# EAGLE library part MOTOR+ENC (library pololu)
#3081 + #1086 + LP micro motor
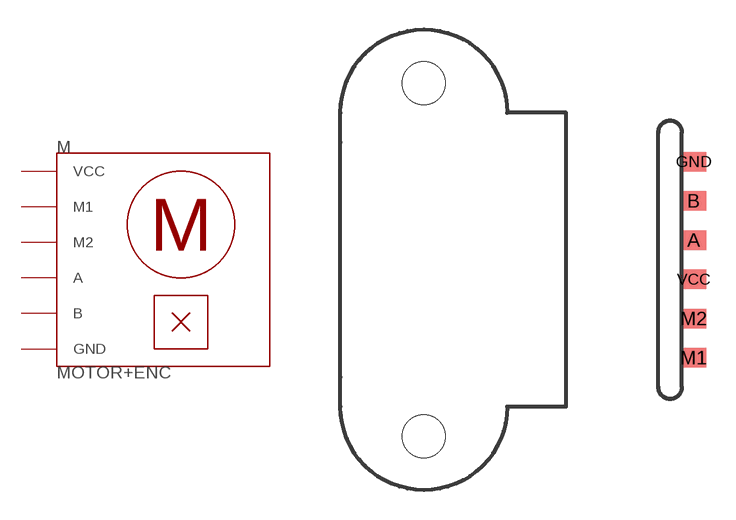
[diagram p0: symbol with the pads of MOTOR+ENC; footprint MOTOR+ENC]

Designator prefix M

## MOTOR+ENC  [MOTOR+ENC]
A  A
B  B
GND  GND
M1  M1
M2  M2
VCC  VCC

## Footprint MOTOR+ENC (pad centres in mm)
All gear ratios except 1000:1
smd 1.3 x 1: A 18,1; B 18,3; GND 18,5; M1 18,-5; M2 18,-3; VCC 18,-1
hole 2.2 at 4.25,9
hole 2.2 at 4.25,-9